# Altium footprint library 0805 Package.PcbLib: 20 footprints (part 2 of 2)
Each footprint in its own frame and in the unit in brackets; x right, y up, seen from the top. Pads: shape width x height; smd on the part's side, far side on the other; paste and mask are expansions set on the pad; w line width, h text height; cw(c..) or ccw(c..) is an arc to the next point about the centre after c.
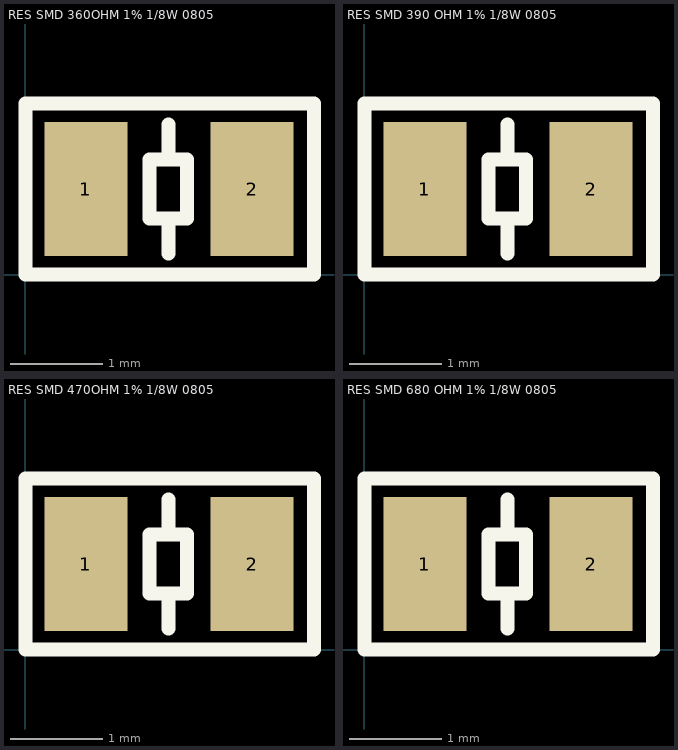
[diagram p1: the footprints below, top view; thin cyan lines are the x and y axes]

## RES SMD 360OHM 1% 1/8W 0805 [mm] "360 Ohms ±1% 0.125W, 1/8W Chip Resistor 0805 (2012 Metric) Moisture Resistant Thick Film"
pads (2):
  rect 0.9x1.45 smd: 1(0.655,0.925) 2(2.455,0.925)
Top Overlay:
  lines w0.152: 1.549,0.229 1.549,0.61 ; 1.549,1.626 1.549,1.245 ; 1.549,0.61 1.753,0.61 1.753,1.245 1.549,1.245 ; 1.549,0.61 1.346,0.61 1.346,1.245 1.549,1.245 ; 0,0 0,1.854 3.124,1.854 3.124,0 0,0
3D body "R0805.STEP": height 0.46, standoff -0.01, extent 0.575,0.29 2.575,1.539

## RES SMD 390 OHM 1% 1/8W 0805 [mm] "390 Ohms ±1% 0.125W, 1/8W Chip Resistor 0805 (2012 Metric) Moisture Resistant Thick Film"
pads (2):
  rect 0.9x1.45 smd: 1(0.655,0.925) 2(2.455,0.925)
Top Overlay:
  lines w0.152: 1.549,0.229 1.549,0.61 ; 1.549,1.626 1.549,1.245 ; 1.549,0.61 1.753,0.61 1.753,1.245 1.549,1.245 ; 1.549,0.61 1.346,0.61 1.346,1.245 1.549,1.245 ; 0,0 0,1.854 3.124,1.854 3.124,0 0,0
3D body "R0805.STEP": height 0.46, standoff -0.01, extent 0.575,0.29 2.575,1.539

## RES SMD 470OHM 1% 1/8W 0805 [mm] "470 Ohms ±1% 0.125W, 1/8W Chip Resistor 0805 (2012 Metric) Moisture Resistant Thick Film"
pads (2):
  rect 0.9x1.45 smd: 1(0.655,0.925) 2(2.455,0.925)
Top Overlay:
  lines w0.152: 1.549,0.229 1.549,0.61 ; 1.549,1.626 1.549,1.245 ; 1.549,0.61 1.753,0.61 1.753,1.245 1.549,1.245 ; 1.549,0.61 1.346,0.61 1.346,1.245 1.549,1.245 ; 0,0 0,1.854 3.124,1.854 3.124,0 0,0
3D body "R0805.STEP": height 0.46, standoff -0.01, extent 0.575,0.29 2.575,1.539

## RES SMD 680 OHM 1% 1/8W 0805 [mm] "680 Ohms ±1% 0.125W, 1/8W Chip Resistor 0805 (2012 Metric) Moisture Resistant Thick Film"
pads (2):
  rect 0.9x1.45 smd: 1(0.655,0.925) 2(2.455,0.925)
Top Overlay:
  lines w0.152: 1.549,0.229 1.549,0.61 ; 1.549,1.626 1.549,1.245 ; 1.549,0.61 1.753,0.61 1.753,1.245 1.549,1.245 ; 1.549,0.61 1.346,0.61 1.346,1.245 1.549,1.245 ; 0,0 0,1.854 3.124,1.854 3.124,0 0,0
3D body "R0805.STEP": height 0.46, standoff -0.01, extent 0.575,0.29 2.575,1.539